# Altium schematic symbol library MOLEX_76825-0002.SchLib: 1 symbol
Pins are listed as number, name and electrical type; pins without a type are passive.

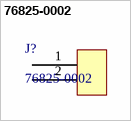
[diagram p0: symbol 76825-0002]

## 76825-0002
designator J?
CONN HEADER R/A 2POS; Manufacturer: Molex; Number of Circuits: 2; Gender: Male; Pitch: 5.7mm; Supplier 1: Digi-Key; Manufacturer Part Number: 76825-0002; Stock 1: 2541; Pricing 1: 1 = 1.13000, 10 = 0.99300, 25 = 0.93440, 50 = 0.89560, 100 = 0.85670, 250 = 0.77880, 500 = 0.70092, 2016 = 0.58410, 4032 = 0.56463 (USD); RoHS: Yes; Color: Black; Contact Plating: Tin; Contact Material: Copper; Termination: Through Hole; Number of Rows: 2; Orientation: Right Angle; Number of Contacts: 2; REACH SVHC: Unknown; ComponentLink1URL: http://www.farnell.com/datasheets/2216551.pdf?src-supplier=Farnell; ComponentLink1Description: http://www.farnell.com/datasheets/2216551.pdf?src-supplier=Farnell; ComponentLink2URL: http://www.alliedelec.com/images/products/datasheets/bm/BrandonData/70717238.pdf?src-supplier=Allied+Electronics; ComponentLink2Description: http://www.alliedelec.com/images/products/datasheets/bm/BrandonData/70717238.pdf?src-supplier=Allied+Electronics; ComponentLink3URL: https://www.molex.com/pdm_docs/sd/768250002_sd.pdf?src-supplier=Digi-Key; ComponentLink3Description: https://www.molex.com/pdm_docs/sd/768250002_sd.pdf?src-supplier=Digi-Key; ComponentLink4URL: http://www.farnell.com/datasheets/2001779.pdf?src-supplier=Element14; ComponentLink4Description: http://www.farnell.com/datasheets/2001779.pdf?src-supplier=Element14; ComponentLink5URL: http://www.farnell.com/datasheets/1968956.pdf?src-supplier=Element14; ComponentLink5Description: http://www.farnell.com/datasheets/1968956.pdf?src-supplier=Element14; Supplier Part Number 1: WM11969-ND
footprint MOLEX_76825-0002
pins: 1, 2